# Altium schematic symbol library FOX Crystals.SchLib: 1 symbol
Pins are listed as number, name and electrical type; pins without a type are passive.

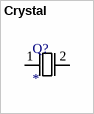
[diagram p0: symbol Crystal]

## Crystal
designator Q?
...MHz
footprint Crystal 488P (Crystal Pitch 4.88mm - 4.65mm x 11.35mm x 3.6mm)
pins: 1, 2